# Altium integrated library Linear Technology Power Management Switching Regulator LT1074-LT8705.IntLib: 2252 symbols (part 147 of 148)
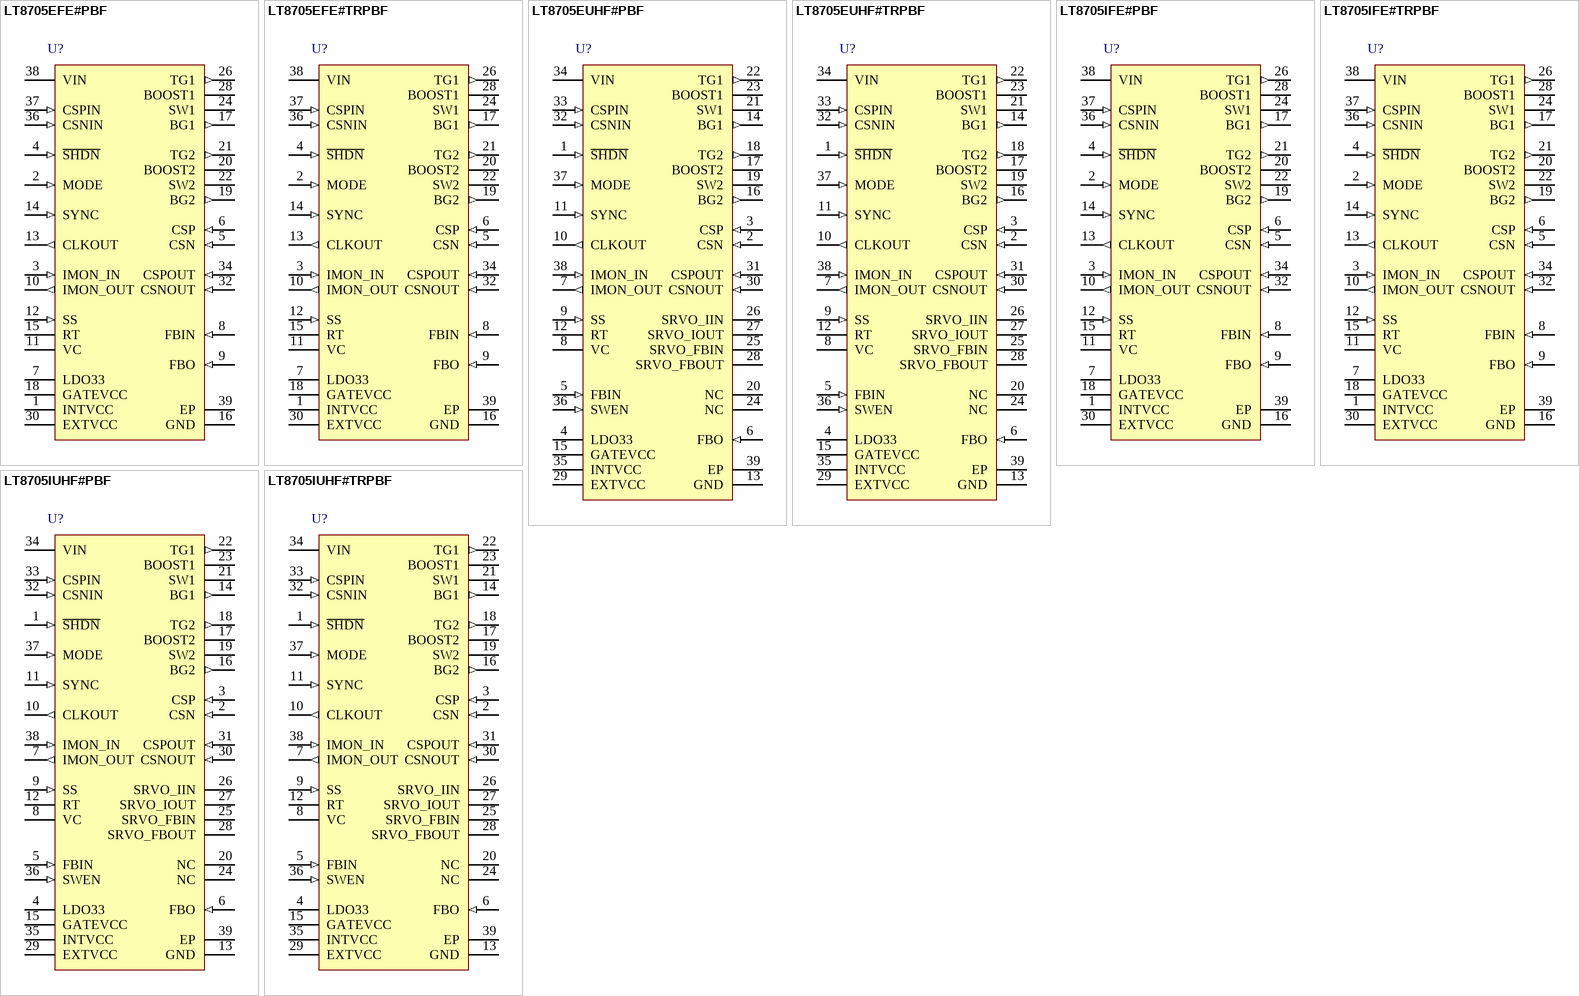
[diagram p217: symbols LT8705EFE#PBF to LT8705IUHF#TRPBF]

## LT8705EFE#PBF
designator U?
Synchronous 4-Switch Buck- Boost DC/DC Controller, 38-pin SOP (FE-38-31-EPV-AB), -40 to 125 degC, Pb-Free; Manufacturer: Linear Technology; PartNumber: LT8705EFE#PBF; Frequency Adjust Range: 100kHz - 400kHz; Number of Outputs: 1; PackageVersion: Rev. B, 09/2010; PackageReference: FE-38; PackageDescription: 31-Pin Plastic TSSOP, Body 9.7 x 4.4 mm, Pitch 0.5 mm; Supplier 1: Digi-Key; Supplier Part Number 1: LT8705EFE#PBF-ND; Supplier 2: Newark; Supplier Part Number 2: 94W8486; RoHS: TRUE; Mounting Technology: Surface Mount; ComponentLink1Description: Manufacturer URL; ComponentLink1URL: http://www.linear.com/; ComponentLink2Description: Datasheet; ComponentLink2URL: http://cds.linear.com/docs/en/datasheet/8705f.pdf; ComponentLink3Description: Package Specification; ComponentLink3URL: http://cds.linear.com/docs/en/packaging/TSSOP_38_05-08-1865.pdf
footprint LT-FE-38-V-FE38(31)-EPV-AB_N (SOP, 31-Leads, Body 9.8x4.5mm, Pitch 0.5mm, Thermal Pad 4.75x2.74mm, IPC Medium Density)
footprint LT-FE-38-V-FE38(31)-EPV-AB_L (SOP, 31-Leads, Body 9.8x4.5mm, Pitch 0.5mm, Thermal Pad 4.75x2.74mm, IPC High Density)
footprint LT-FE-38-V-FE38(31)-EPV-AB_M (SOP, 31-Leads, Body 9.8x4.5mm, Pitch 0.5mm, Thermal Pad 4.75x2.74mm, IPC Low Density)
pins: 1 INTVCC (power) "Internal 6.35V Regulator Output. Must be connected to the GATEVCC pin. INTVCC is powered from EXTVCC when the EXTVCC voltage is higher than 6.4V, otherwise INTVCC is powered from VIN . Bypass this pin to ground with a (See Datasheet)", 2 MODE (in) "Mode Pin. The voltage applied to this pin sets the operating mode of the controller. When the applied voltage is less than 0.4V, the forced continuous current mode is active. When this pin is allowed to float, Burst Mode (See Datasheet)", 3 IMON_IN (in) "Input Current Monitor Pin. The current out of this pin is proportional to the input current. See the Operation and Applications Information sections.", 4 ~{SHDN} (in) "Shutdown Pin. Tie high to enable device. Ground to shut down and reduce quiescent current to a minimum. Do not float this pin.", 5 CSN (in) "The (-) Input to the Inductor Current Sense and Reverse-Current Detect Amplifier.", 6 CSP (in) "The (+) Input to the Inductor Current Sense and Reverse-Current Detect Amplifier. The VC pin voltage and built-in offsets between CSP and CSN pins, in conjunction with the RSENSE resistor value, set the current trip (See Datasheet)", 7 LDO33 (power) "3.3V Regulator Output. Bypass this pin to ground with a minimum 0.1uF ceramic capacitor.", 8 FBIN (in) "Input Feedback Pin. This pin is connected to the input error amplifier input.", 9 FBO (in) "Output Feedback Pin. This pin connects the error amplifier input to an external resistor divider from the output.", 10 IMON_OUT (out) "Output Current Monitor Pin. The current out of this pin is proportional to the output current. See the Operation and Applications Information sections.", 11 VC "Error Amplifier Output Pin. Tie external compensation network to this pin.", 12 SS (in) "Soft-Start Pin. Place at least 100nF of capacitance here. Upon start-up, this pin will be charged by an internal resistor to 2.5V.", 13 CLKOUT (out) "Clock Output Pin. Use this pin to synchronize one or more compatible switching regulator ICs to the LT8705. CLKOUT toggles at the same frequency as the internal oscillator or as the SYNC pin, but is approximately 180degrees (See Datasheet)", 14 SYNC (in) "To synchronize the switching frequency to an outside clock, simply drive this pin with a clock. The high voltage level of the clock needs to exceed 1.3V, and the low level should be less than 0.5V. Drive this pin to less (See Datasheet)", 15 RT "Timing Resistor Pin. Adjusts the switching frequency. Place a resistor from this pin to ground to set the free-running frequency. Do not float this pin.", 16 GND (power) "Ground. Tie directly to local ground plane.", 17 BG1 (out) "Bottom Gate Drive. Drives the gates of the bottom N-channel MOSFETs between ground and GATEVCC.", 18 GATEVCC (power) "Power Supply for Gate Drivers. Must be connected to the INTVCC pin. Do not power from any other supply. Locally bypass to GND.", 19 BG2 (out) "Bottom Gate Drive. Drives the gates of the bottom N-channel MOSFETs between ground and GATEVCC.", 20 BOOST2 "Boosted Floating Driver Supply. The (+) terminal of the bootstrap capacitor connects here. The BOOST1 pin swings from a diode voltage below GATEVCC up to VIN + GATEVCC. The BOOST2 pin swings from a diode voltage below (See Datasheet)", 21 TG2 (out) "Top Gate Drive. Drives the top N-channel MOSFETs with voltage swings equal to GATEVCC superimposed on the switch node voltages.", 22 SW2 "Switch Nodes. The (-) terminals of the bootstrap capacitors connect here.", 24 SW1 "Switch Nodes. The (-) terminals of the bootstrap capacitors connect here.", 26 TG1 (out) "Top Gate Drive. Drives the top N-channel MOSFETs with voltage swings equal to GATEVCC superimposed on the switch node voltages.", 28 BOOST1 "Boosted Floating Driver Supply. The (+) terminal of the bootstrap capacitor connects here. The BOOST1 pin swings from a diode voltage below GATEVCC up to VIN + GATEVCC. The BOOST2 pin swings from a diode voltage below (See Datasheet)", 30 EXTVCC (power) "External VCC Input. When EXTVCC exceeds 6.4V (typical), INTVCC will be powered from this pin. When EXTVCC is lower than 6.22V (typical), INTVCC will be powered from VIN.", 32 CSNOUT (in) "The (-) Input to the Output Current Monitor Amplifier. Connect this pin to VOUT when not in use. See Applications Information section for proper use of this pin.", 34 CSPOUT (in) "The (+) Input to the Output Current Monitor Amplifier. This pin and the CSNOUT pin measure the voltage across the sense resistor, RSENSE2, to provide the output current signals. Connect this pin to VOUT when not in use. See (See Datasheet)", 36 CSNIN (in) "The (-) Input to the Input Current Monitor Amplifier. This pin and the CSPIN pin measure the voltage across the sense resistor, RSENSE1, to provide the input current signals. Connect this pin to VIN when not in use. See (See Datasheet)", 37 CSPIN (in) "The (+) Input to the Input Current Monitor Amplifier. Connect this pin to VIN when not in use. See Applications Information section for proper use of this pin.", 38 VIN (power) "Main Input Supply Pin. It must be locally bypassed to ground.", 39 EP (power) "Ground. Tie directly to local ground plane."

## LT8705EFE#TRPBF
designator U?
Synchronous 4-Switch Buck- Boost DC/DC Controller, 38-pin SOP (FE-38-31-EPV-AB), -40 to 125 degC, Pb-Free, Tape and Reel; Manufacturer: Linear Technology; PartNumber: LT8705EFE#TRPBF; Frequency Adjust Range: 100kHz - 400kHz; Number of Outputs: 1; PackageVersion: Rev. B, 09/2010; PackageReference: FE-38; PackageDescription: 31-Pin Plastic TSSOP, Body 9.7 x 4.4 mm, Pitch 0.5 mm; Supplier 1: Digi-Key; Supplier Part Number 1: LT8705EFE#TRPBF-ND; Supplier 2: Newark; Supplier Part Number 2: 94W8487; Packing: Tape and Reel; RoHS: TRUE; Mounting Technology: Surface Mount; ComponentLink1Description: Manufacturer URL; ComponentLink1URL: http://www.linear.com/; ComponentLink2Description: Datasheet; ComponentLink2URL: http://cds.linear.com/docs/en/datasheet/8705f.pdf; ComponentLink3Description: Package Specification; ComponentLink3URL: http://cds.linear.com/docs/en/packaging/TSSOP_38_05-08-1865.pdf
footprint LT-FE-38-V-FE38(31)-EPV-AB_N (SOP, 31-Leads, Body 9.8x4.5mm, Pitch 0.5mm, Thermal Pad 4.75x2.74mm, IPC Medium Density)
footprint LT-FE-38-V-FE38(31)-EPV-AB_L (SOP, 31-Leads, Body 9.8x4.5mm, Pitch 0.5mm, Thermal Pad 4.75x2.74mm, IPC High Density)
footprint LT-FE-38-V-FE38(31)-EPV-AB_M (SOP, 31-Leads, Body 9.8x4.5mm, Pitch 0.5mm, Thermal Pad 4.75x2.74mm, IPC Low Density)
pins: 1 INTVCC (power) "Internal 6.35V Regulator Output. Must be connected to the GATEVCC pin. INTVCC is powered from EXTVCC when the EXTVCC voltage is higher than 6.4V, otherwise INTVCC is powered from VIN . Bypass this pin to ground with a (See Datasheet)", 2 MODE (in) "Mode Pin. The voltage applied to this pin sets the operating mode of the controller. When the applied voltage is less than 0.4V, the forced continuous current mode is active. When this pin is allowed to float, Burst Mode (See Datasheet)", 3 IMON_IN (in) "Input Current Monitor Pin. The current out of this pin is proportional to the input current. See the Operation and Applications Information sections.", 4 ~{SHDN} (in) "Shutdown Pin. Tie high to enable device. Ground to shut down and reduce quiescent current to a minimum. Do not float this pin.", 5 CSN (in) "The (-) Input to the Inductor Current Sense and Reverse-Current Detect Amplifier.", 6 CSP (in) "The (+) Input to the Inductor Current Sense and Reverse-Current Detect Amplifier. The VC pin voltage and built-in offsets between CSP and CSN pins, in conjunction with the RSENSE resistor value, set the current trip (See Datasheet)", 7 LDO33 (power) "3.3V Regulator Output. Bypass this pin to ground with a minimum 0.1uF ceramic capacitor.", 8 FBIN (in) "Input Feedback Pin. This pin is connected to the input error amplifier input.", 9 FBO (in) "Output Feedback Pin. This pin connects the error amplifier input to an external resistor divider from the output.", 10 IMON_OUT (out) "Output Current Monitor Pin. The current out of this pin is proportional to the output current. See the Operation and Applications Information sections.", 11 VC "Error Amplifier Output Pin. Tie external compensation network to this pin.", 12 SS (in) "Soft-Start Pin. Place at least 100nF of capacitance here. Upon start-up, this pin will be charged by an internal resistor to 2.5V.", 13 CLKOUT (out) "Clock Output Pin. Use this pin to synchronize one or more compatible switching regulator ICs to the LT8705. CLKOUT toggles at the same frequency as the internal oscillator or as the SYNC pin, but is approximately 180degrees (See Datasheet)", 14 SYNC (in) "To synchronize the switching frequency to an outside clock, simply drive this pin with a clock. The high voltage level of the clock needs to exceed 1.3V, and the low level should be less than 0.5V. Drive this pin to less (See Datasheet)", 15 RT "Timing Resistor Pin. Adjusts the switching frequency. Place a resistor from this pin to ground to set the free-running frequency. Do not float this pin.", 16 GND (power) "Ground. Tie directly to local ground plane.", 17 BG1 (out) "Bottom Gate Drive. Drives the gates of the bottom N-channel MOSFETs between ground and GATEVCC.", 18 GATEVCC (power) "Power Supply for Gate Drivers. Must be connected to the INTVCC pin. Do not power from any other supply. Locally bypass to GND.", 19 BG2 (out) "Bottom Gate Drive. Drives the gates of the bottom N-channel MOSFETs between ground and GATEVCC.", 20 BOOST2 "Boosted Floating Driver Supply. The (+) terminal of the bootstrap capacitor connects here. The BOOST1 pin swings from a diode voltage below GATEVCC up to VIN + GATEVCC. The BOOST2 pin swings from a diode voltage below (See Datasheet)", 21 TG2 (out) "Top Gate Drive. Drives the top N-channel MOSFETs with voltage swings equal to GATEVCC superimposed on the switch node voltages.", 22 SW2 "Switch Nodes. The (-) terminals of the bootstrap capacitors connect here.", 24 SW1 "Switch Nodes. The (-) terminals of the bootstrap capacitors connect here.", 26 TG1 (out) "Top Gate Drive. Drives the top N-channel MOSFETs with voltage swings equal to GATEVCC superimposed on the switch node voltages.", 28 BOOST1 "Boosted Floating Driver Supply. The (+) terminal of the bootstrap capacitor connects here. The BOOST1 pin swings from a diode voltage below GATEVCC up to VIN + GATEVCC. The BOOST2 pin swings from a diode voltage below (See Datasheet)", 30 EXTVCC (power) "External VCC Input. When EXTVCC exceeds 6.4V (typical), INTVCC will be powered from this pin. When EXTVCC is lower than 6.22V (typical), INTVCC will be powered from VIN.", 32 CSNOUT (in) "The (-) Input to the Output Current Monitor Amplifier. Connect this pin to VOUT when not in use. See Applications Information section for proper use of this pin.", 34 CSPOUT (in) "The (+) Input to the Output Current Monitor Amplifier. This pin and the CSNOUT pin measure the voltage across the sense resistor, RSENSE2, to provide the output current signals. Connect this pin to VOUT when not in use. See (See Datasheet)", 36 CSNIN (in) "The (-) Input to the Input Current Monitor Amplifier. This pin and the CSPIN pin measure the voltage across the sense resistor, RSENSE1, to provide the input current signals. Connect this pin to VIN when not in use. See (See Datasheet)", 37 CSPIN (in) "The (+) Input to the Input Current Monitor Amplifier. Connect this pin to VIN when not in use. See Applications Information section for proper use of this pin.", 38 VIN (power) "Main Input Supply Pin. It must be locally bypassed to ground.", 39 EP (power) "Ground. Tie directly to local ground plane."

## LT8705EUHF#PBF
designator U?
Synchronous 4-Switch Buck- Boost DC/DC Controller, 38-pin QFN (UHF-38), -40 to 125 degC, Pb-Free; Manufacturer: Linear Technology; PartNumber: LT8705EUHF#PBF; Frequency Adjust Range: 100kHz - 400kHz; Number of Outputs: 1; PackageVersion: Rev. C, 06/2010; PackageReference: UHF-38; PackageDescription: 38-Pin Plastic QFN, Body 7 x 5 mm, Pitch 0.5 mm; Supplier 1: Digi-Key; Supplier Part Number 1: LT8705EUHF#PBF-ND; Supplier 2: Newark; Supplier Part Number 2: 94W8488; RoHS: TRUE; Mounting Technology: Surface Mount; Code_JEDEC: MO-220; ComponentLink1Description: Manufacturer URL; ComponentLink1URL: http://www.linear.com/; ComponentLink2Description: Datasheet; ComponentLink2URL: http://cds.linear.com/docs/en/datasheet/8705f.pdf; ComponentLink3Description: Package Specification; ComponentLink3URL: http://cds.linear.com/docs/en/packaging/QFN_38_05-08-1701.pdf
footprint LT-UHF-38_N (QFN, 38-Leads, Body 7.1x5.1mm, Pitch 0.5mm, Thermal Pad 3.15x5.15mm, IPC Medium Density)
footprint LT-UHF-38_L (QFN, 38-Leads, Body 7.1x5.1mm, Pitch 0.5mm, Thermal Pad 3.15x5.15mm, IPC High Density)
footprint LT-UHF-38_M (QFN, 38-Leads, Body 7.1x5.1mm, Pitch 0.5mm, Thermal Pad 3.15x5.15mm, IPC Low Density)
pins: 1 ~{SHDN} (in) "Shutdown Pin. Tie high to enable device. Ground to shut down and reduce quiescent current to a minimum. Do not float this pin.", 2 CSN (in) "The (-) Input to the Inductor Current Sense and Reverse-Current Detect Amplifier.", 3 CSP (in) "The (+) Input to the Inductor Current Sense and Reverse-Current Detect Amplifier. The VC pin voltage and built-in offsets between CSP and CSN pins, in conjunction with the RSENSE resistor value, set the current trip (See Datasheet)", 4 LDO33 (power) "3.3V Regulator Output. Bypass this pin to ground with a minimum 0.1uF ceramic capacitor.", 5 FBIN (in) "Input Feedback Pin. This pin is connected to the input error amplifier input.", 6 FBO (in) "Output Feedback Pin. This pin connects the error amplifier input to an external resistor divider from the output.", 7 IMON_OUT (out) "Output Current Monitor Pin. The current out of this pin is proportional to the output current. See the Operation and Applications Information sections.", 8 VC "Error Amplifier Output Pin. Tie external compensation network to this pin.", 9 SS (in) "Soft-Start Pin. Place at least 100nF of capacitance here. Upon start-up, this pin will be charged by an internal resistor to 2.5V.", 10 CLKOUT (out) "Clock Output Pin. Use this pin to synchronize one or more compatible switching regulator ICs to the LT8705. CLKOUT toggles at the same frequency as the internal oscillator or as the SYNC pin, but is approximately 180degrees (See Datasheet)", 11 SYNC (in) "To synchronize the switching frequency to an outside clock, simply drive this pin with a clock. The high voltage level of the clock needs to exceed 1.3V, and the low level should be less than 0.5V. Drive this pin to less (See Datasheet)", 12 RT "Timing Resistor Pin. Adjusts the switching frequency. Place a resistor from this pin to ground to set the free-running frequency. Do not float this pin.", 13 GND (power) "Ground. Tie directly to local ground plane.", 14 BG1 (out) "Bottom Gate Drive. Drives the gates of the bottom N-channel MOSFETs between ground and GATEVCC.", 15 GATEVCC (power) "Power Supply for Gate Drivers. Must be connected to the INTVCC pin. Do not power from any other supply. Locally bypass to GND.", 16 BG2 (out) "Bottom Gate Drive. Drives the gates of the bottom N-channel MOSFETs between ground and GATEVCC.", 17 BOOST2 "Boosted Floating Driver Supply. The (+) terminal of the bootstrap capacitor connects here. The BOOST1 pin swings from a diode voltage below GATEVCC up to VIN + GATEVCC. The BOOST2 pin swings from a diode voltage below (See Datasheet)", 18 TG2 (out) "Top Gate Drive. Drives the top N-channel MOSFETs with voltage swings equal to GATEVCC superimposed on the switch node voltages.", 19 SW2 "Switch Nodes. The (-) terminals of the bootstrap capacitors connect here.", 20 NC, 21 SW1 "Switch Nodes. The (-) terminals of the bootstrap capacitors connect here.", 22 TG1 (out) "Top Gate Drive. Drives the top N-channel MOSFETs with voltage swings equal to GATEVCC superimposed on the switch node voltages.", 23 BOOST1 "Boosted Floating Driver Supply. The (+) terminal of the bootstrap capacitor connects here. The BOOST1 pin swings from a diode voltage below GATEVCC up to VIN + GATEVCC. The BOOST2 pin swings from a diode voltage below (See Datasheet)", 24 NC, 25 SRVO_FBIN (oc) "Open-Drain Logic Output. This pin is pulled to ground when the input voltage feedback loop is active.", 26 SRVO_IIN (oc) "Open-Drain Logic Output. The pin is pulled to ground when the input current loop is active.", 27 SRVO_IOUT (oc) "Open-Drain Logic Output. The pin is pulled to ground when the output current feedback loop is active.", 28 SRVO_FBOUT (oc) "Open-Drain Logic Output. This pin is pulled to ground when the output voltage feedback loop is active.", 29 EXTVCC (power) "External VCC Input. When EXTVCC exceeds 6.4V (typical), INTVCC will be powered from this pin. When EXTVCC is lower than 6.22V (typical), INTVCC will be powered from VIN.", 30 CSNOUT (in) "The (-) Input to the Output Current Monitor Amplifier. Connect this pin to VOUT when not in use. See Applications Information section for proper use of this pin.", 31 CSPOUT (in) "The (+) Input to the Output Current Monitor Amplifier. This pin and the CSNOUT pin measure the voltage across the sense resistor, RSENSE2, to provide the output current signals. Connect this pin to VOUT when not in use. See (See Datasheet)", 32 CSNIN (in) "The (-) Input to the Input Current Monitor Amplifier. This pin and the CSPIN pin measure the voltage across the sense resistor, RSENSE1, to provide the input current signals. Connect this pin to VIN when not in use. See (See Datasheet)", 33 CSPIN (in) "The (+) Input to the Input Current Monitor Amplifier. Connect this pin to VIN when not in use. See Applications Information section for proper use of this pin.", 34 VIN (power) "Main Input Supply Pin. It must be locally bypassed to ground.", 35 INTVCC (power) "Internal 6.35V Regulator Output. Must be connected to the GATEVCC pin. INTVCC is powered from EXTVCC when the EXTVCC voltage is higher than 6.4V, otherwise INTVCC is powered from VIN . Bypass this pin to ground with a (See Datasheet)", 36 SWEN (in) "Switch Enable Pin. Tie high to enable switching. Ground to disable switching. Don’t float this pin. This pin is internally tied to INTVCC in the TSSOP package.", 37 MODE (in) "Mode Pin. The voltage applied to this pin sets the operating mode of the controller. When the applied voltage is less than 0.4V, the forced continuous current mode is active. When this pin is allowed to float, Burst Mode (See Datasheet)", 38 IMON_IN (in) "Input Current Monitor Pin. The current out of this pin is proportional to the input current. See the Operation and Applications Information sections.", 39 EP (power) "Ground. Tie directly to local ground plane."

## LT8705EUHF#TRPBF
designator U?
Synchronous 4-Switch Buck- Boost DC/DC Controller, 38-pin QFN (UHF-38), -40 to 125 degC, Pb-Free, Tape and Reel; Manufacturer: Linear Technology; PartNumber: LT8705EUHF#TRPBF; Frequency Adjust Range: 100kHz - 400kHz; Number of Outputs: 1; PackageVersion: Rev. C, 06/2010; PackageReference: UHF-38; PackageDescription: 38-Pin Plastic QFN, Body 7 x 5 mm, Pitch 0.5 mm; Supplier 1: Digi-Key; Supplier Part Number 1: LT8705EUHF#TRPBF-ND; Supplier 2: Newark; Supplier Part Number 2: 94W8489; Packing: Tape and Reel; RoHS: TRUE; Mounting Technology: Surface Mount; Code_JEDEC: MO-220; ComponentLink1Description: Manufacturer URL; ComponentLink1URL: http://www.linear.com/; ComponentLink2Description: Datasheet; ComponentLink2URL: http://cds.linear.com/docs/en/datasheet/8705f.pdf; ComponentLink3Description: Package Specification; ComponentLink3URL: http://cds.linear.com/docs/en/packaging/QFN_38_05-08-1701.pdf
footprint LT-UHF-38_N (QFN, 38-Leads, Body 7.1x5.1mm, Pitch 0.5mm, Thermal Pad 3.15x5.15mm, IPC Medium Density)
footprint LT-UHF-38_L (QFN, 38-Leads, Body 7.1x5.1mm, Pitch 0.5mm, Thermal Pad 3.15x5.15mm, IPC High Density)
footprint LT-UHF-38_M (QFN, 38-Leads, Body 7.1x5.1mm, Pitch 0.5mm, Thermal Pad 3.15x5.15mm, IPC Low Density)
pins: 1 ~{SHDN} (in) "Shutdown Pin. Tie high to enable device. Ground to shut down and reduce quiescent current to a minimum. Do not float this pin.", 2 CSN (in) "The (-) Input to the Inductor Current Sense and Reverse-Current Detect Amplifier.", 3 CSP (in) "The (+) Input to the Inductor Current Sense and Reverse-Current Detect Amplifier. The VC pin voltage and built-in offsets between CSP and CSN pins, in conjunction with the RSENSE resistor value, set the current trip (See Datasheet)", 4 LDO33 (power) "3.3V Regulator Output. Bypass this pin to ground with a minimum 0.1uF ceramic capacitor.", 5 FBIN (in) "Input Feedback Pin. This pin is connected to the input error amplifier input.", 6 FBO (in) "Output Feedback Pin. This pin connects the error amplifier input to an external resistor divider from the output.", 7 IMON_OUT (out) "Output Current Monitor Pin. The current out of this pin is proportional to the output current. See the Operation and Applications Information sections.", 8 VC "Error Amplifier Output Pin. Tie external compensation network to this pin.", 9 SS (in) "Soft-Start Pin. Place at least 100nF of capacitance here. Upon start-up, this pin will be charged by an internal resistor to 2.5V.", 10 CLKOUT (out) "Clock Output Pin. Use this pin to synchronize one or more compatible switching regulator ICs to the LT8705. CLKOUT toggles at the same frequency as the internal oscillator or as the SYNC pin, but is approximately 180degrees (See Datasheet)", 11 SYNC (in) "To synchronize the switching frequency to an outside clock, simply drive this pin with a clock. The high voltage level of the clock needs to exceed 1.3V, and the low level should be less than 0.5V. Drive this pin to less (See Datasheet)", 12 RT "Timing Resistor Pin. Adjusts the switching frequency. Place a resistor from this pin to ground to set the free-running frequency. Do not float this pin.", 13 GND (power) "Ground. Tie directly to local ground plane.", 14 BG1 (out) "Bottom Gate Drive. Drives the gates of the bottom N-channel MOSFETs between ground and GATEVCC.", 15 GATEVCC (power) "Power Supply for Gate Drivers. Must be connected to the INTVCC pin. Do not power from any other supply. Locally bypass to GND.", 16 BG2 (out) "Bottom Gate Drive. Drives the gates of the bottom N-channel MOSFETs between ground and GATEVCC.", 17 BOOST2 "Boosted Floating Driver Supply. The (+) terminal of the bootstrap capacitor connects here. The BOOST1 pin swings from a diode voltage below GATEVCC up to VIN + GATEVCC. The BOOST2 pin swings from a diode voltage below (See Datasheet)", 18 TG2 (out) "Top Gate Drive. Drives the top N-channel MOSFETs with voltage swings equal to GATEVCC superimposed on the switch node voltages.", 19 SW2 "Switch Nodes. The (-) terminals of the bootstrap capacitors connect here.", 20 NC, 21 SW1 "Switch Nodes. The (-) terminals of the bootstrap capacitors connect here.", 22 TG1 (out) "Top Gate Drive. Drives the top N-channel MOSFETs with voltage swings equal to GATEVCC superimposed on the switch node voltages.", 23 BOOST1 "Boosted Floating Driver Supply. The (+) terminal of the bootstrap capacitor connects here. The BOOST1 pin swings from a diode voltage below GATEVCC up to VIN + GATEVCC. The BOOST2 pin swings from a diode voltage below (See Datasheet)", 24 NC, 25 SRVO_FBIN (oc) "Open-Drain Logic Output. This pin is pulled to ground when the input voltage feedback loop is active.", 26 SRVO_IIN (oc) "Open-Drain Logic Output. The pin is pulled to ground when the input current loop is active.", 27 SRVO_IOUT (oc) "Open-Drain Logic Output. The pin is pulled to ground when the output current feedback loop is active.", 28 SRVO_FBOUT (oc) "Open-Drain Logic Output. This pin is pulled to ground when the output voltage feedback loop is active.", 29 EXTVCC (power) "External VCC Input. When EXTVCC exceeds 6.4V (typical), INTVCC will be powered from this pin. When EXTVCC is lower than 6.22V (typical), INTVCC will be powered from VIN.", 30 CSNOUT (in) "The (-) Input to the Output Current Monitor Amplifier. Connect this pin to VOUT when not in use. See Applications Information section for proper use of this pin.", 31 CSPOUT (in) "The (+) Input to the Output Current Monitor Amplifier. This pin and the CSNOUT pin measure the voltage across the sense resistor, RSENSE2, to provide the output current signals. Connect this pin to VOUT when not in use. See (See Datasheet)", 32 CSNIN (in) "The (-) Input to the Input Current Monitor Amplifier. This pin and the CSPIN pin measure the voltage across the sense resistor, RSENSE1, to provide the input current signals. Connect this pin to VIN when not in use. See (See Datasheet)", 33 CSPIN (in) "The (+) Input to the Input Current Monitor Amplifier. Connect this pin to VIN when not in use. See Applications Information section for proper use of this pin.", 34 VIN (power) "Main Input Supply Pin. It must be locally bypassed to ground.", 35 INTVCC (power) "Internal 6.35V Regulator Output. Must be connected to the GATEVCC pin. INTVCC is powered from EXTVCC when the EXTVCC voltage is higher than 6.4V, otherwise INTVCC is powered from VIN . Bypass this pin to ground with a (See Datasheet)", 36 SWEN (in) "Switch Enable Pin. Tie high to enable switching. Ground to disable switching. Don’t float this pin. This pin is internally tied to INTVCC in the TSSOP package.", 37 MODE (in) "Mode Pin. The voltage applied to this pin sets the operating mode of the controller. When the applied voltage is less than 0.4V, the forced continuous current mode is active. When this pin is allowed to float, Burst Mode (See Datasheet)", 38 IMON_IN (in) "Input Current Monitor Pin. The current out of this pin is proportional to the input current. See the Operation and Applications Information sections.", 39 EP (power) "Ground. Tie directly to local ground plane."

## LT8705IFE#PBF
designator U?
Synchronous 4-Switch Buck- Boost DC/DC Controller, 38-pin SOP (FE-38-31-EPV-AB), -40 to 125 degC, Pb-Free; Manufacturer: Linear Technology; PartNumber: LT8705IFE#PBF; Frequency Adjust Range: 100kHz - 400kHz; Number of Outputs: 1; PackageVersion: Rev. B, 09/2010; PackageReference: FE-38; PackageDescription: 31-Pin Plastic TSSOP, Body 9.7 x 4.4 mm, Pitch 0.5 mm; Supplier 1: Digi-Key; Supplier Part Number 1: LT8705IFE#PBF-ND; Supplier 2: Newark; Supplier Part Number 2: 94W8490; RoHS: TRUE; Mounting Technology: Surface Mount; ComponentLink1Description: Manufacturer URL; ComponentLink1URL: http://www.linear.com/; ComponentLink2Description: Datasheet; ComponentLink2URL: http://cds.linear.com/docs/en/datasheet/8705f.pdf; ComponentLink3Description: Package Specification; ComponentLink3URL: http://cds.linear.com/docs/en/packaging/TSSOP_38_05-08-1865.pdf
footprint LT-FE-38-V-FE38(31)-EPV-AB_N (SOP, 31-Leads, Body 9.8x4.5mm, Pitch 0.5mm, Thermal Pad 4.75x2.74mm, IPC Medium Density)
footprint LT-FE-38-V-FE38(31)-EPV-AB_L (SOP, 31-Leads, Body 9.8x4.5mm, Pitch 0.5mm, Thermal Pad 4.75x2.74mm, IPC High Density)
footprint LT-FE-38-V-FE38(31)-EPV-AB_M (SOP, 31-Leads, Body 9.8x4.5mm, Pitch 0.5mm, Thermal Pad 4.75x2.74mm, IPC Low Density)
pins: 1 INTVCC (power) "Internal 6.35V Regulator Output. Must be connected to the GATEVCC pin. INTVCC is powered from EXTVCC when the EXTVCC voltage is higher than 6.4V, otherwise INTVCC is powered from VIN . Bypass this pin to ground with a (See Datasheet)", 2 MODE (in) "Mode Pin. The voltage applied to this pin sets the operating mode of the controller. When the applied voltage is less than 0.4V, the forced continuous current mode is active. When this pin is allowed to float, Burst Mode (See Datasheet)", 3 IMON_IN (in) "Input Current Monitor Pin. The current out of this pin is proportional to the input current. See the Operation and Applications Information sections.", 4 ~{SHDN} (in) "Shutdown Pin. Tie high to enable device. Ground to shut down and reduce quiescent current to a minimum. Do not float this pin.", 5 CSN (in) "The (-) Input to the Inductor Current Sense and Reverse-Current Detect Amplifier.", 6 CSP (in) "The (+) Input to the Inductor Current Sense and Reverse-Current Detect Amplifier. The VC pin voltage and built-in offsets between CSP and CSN pins, in conjunction with the RSENSE resistor value, set the current trip (See Datasheet)", 7 LDO33 (power) "3.3V Regulator Output. Bypass this pin to ground with a minimum 0.1uF ceramic capacitor.", 8 FBIN (in) "Input Feedback Pin. This pin is connected to the input error amplifier input.", 9 FBO (in) "Output Feedback Pin. This pin connects the error amplifier input to an external resistor divider from the output.", 10 IMON_OUT (out) "Output Current Monitor Pin. The current out of this pin is proportional to the output current. See the Operation and Applications Information sections.", 11 VC "Error Amplifier Output Pin. Tie external compensation network to this pin.", 12 SS (in) "Soft-Start Pin. Place at least 100nF of capacitance here. Upon start-up, this pin will be charged by an internal resistor to 2.5V.", 13 CLKOUT (out) "Clock Output Pin. Use this pin to synchronize one or more compatible switching regulator ICs to the LT8705. CLKOUT toggles at the same frequency as the internal oscillator or as the SYNC pin, but is approximately 180degrees (See Datasheet)", 14 SYNC (in) "To synchronize the switching frequency to an outside clock, simply drive this pin with a clock. The high voltage level of the clock needs to exceed 1.3V, and the low level should be less than 0.5V. Drive this pin to less (See Datasheet)", 15 RT "Timing Resistor Pin. Adjusts the switching frequency. Place a resistor from this pin to ground to set the free-running frequency. Do not float this pin.", 16 GND (power) "Ground. Tie directly to local ground plane.", 17 BG1 (out) "Bottom Gate Drive. Drives the gates of the bottom N-channel MOSFETs between ground and GATEVCC.", 18 GATEVCC (power) "Power Supply for Gate Drivers. Must be connected to the INTVCC pin. Do not power from any other supply. Locally bypass to GND.", 19 BG2 (out) "Bottom Gate Drive. Drives the gates of the bottom N-channel MOSFETs between ground and GATEVCC.", 20 BOOST2 "Boosted Floating Driver Supply. The (+) terminal of the bootstrap capacitor connects here. The BOOST1 pin swings from a diode voltage below GATEVCC up to VIN + GATEVCC. The BOOST2 pin swings from a diode voltage below (See Datasheet)", 21 TG2 (out) "Top Gate Drive. Drives the top N-channel MOSFETs with voltage swings equal to GATEVCC superimposed on the switch node voltages.", 22 SW2 "Switch Nodes. The (-) terminals of the bootstrap capacitors connect here.", 24 SW1 "Switch Nodes. The (-) terminals of the bootstrap capacitors connect here.", 26 TG1 (out) "Top Gate Drive. Drives the top N-channel MOSFETs with voltage swings equal to GATEVCC superimposed on the switch node voltages.", 28 BOOST1 "Boosted Floating Driver Supply. The (+) terminal of the bootstrap capacitor connects here. The BOOST1 pin swings from a diode voltage below GATEVCC up to VIN + GATEVCC. The BOOST2 pin swings from a diode voltage below (See Datasheet)", 30 EXTVCC (power) "External VCC Input. When EXTVCC exceeds 6.4V (typical), INTVCC will be powered from this pin. When EXTVCC is lower than 6.22V (typical), INTVCC will be powered from VIN.", 32 CSNOUT (in) "The (-) Input to the Output Current Monitor Amplifier. Connect this pin to VOUT when not in use. See Applications Information section for proper use of this pin.", 34 CSPOUT (in) "The (+) Input to the Output Current Monitor Amplifier. This pin and the CSNOUT pin measure the voltage across the sense resistor, RSENSE2, to provide the output current signals. Connect this pin to VOUT when not in use. See (See Datasheet)", 36 CSNIN (in) "The (-) Input to the Input Current Monitor Amplifier. This pin and the CSPIN pin measure the voltage across the sense resistor, RSENSE1, to provide the input current signals. Connect this pin to VIN when not in use. See (See Datasheet)", 37 CSPIN (in) "The (+) Input to the Input Current Monitor Amplifier. Connect this pin to VIN when not in use. See Applications Information section for proper use of this pin.", 38 VIN (power) "Main Input Supply Pin. It must be locally bypassed to ground.", 39 EP (power) "Ground. Tie directly to local ground plane."

## LT8705IFE#TRPBF
designator U?
Synchronous 4-Switch Buck- Boost DC/DC Controller, 38-pin SOP (FE-38-31-EPV-AB), -40 to 125 degC, Pb-Free, Tape and Reel; Manufacturer: Linear Technology; PartNumber: LT8705IFE#TRPBF; Frequency Adjust Range: 100kHz - 400kHz; Number of Outputs: 1; PackageVersion: Rev. B, 09/2010; PackageReference: FE-38; PackageDescription: 31-Pin Plastic TSSOP, Body 9.7 x 4.4 mm, Pitch 0.5 mm; Supplier 1: Digi-Key; Supplier Part Number 1: LT8705IFE#TRPBF-ND; Supplier 2: Newark; Supplier Part Number 2: 94W8491; Packing: Tape and Reel; RoHS: TRUE; Mounting Technology: Surface Mount; ComponentLink1Description: Manufacturer URL; ComponentLink1URL: http://www.linear.com/; ComponentLink2Description: Datasheet; ComponentLink2URL: http://cds.linear.com/docs/en/datasheet/8705f.pdf; ComponentLink3Description: Package Specification; ComponentLink3URL: http://cds.linear.com/docs/en/packaging/TSSOP_38_05-08-1865.pdf
footprint LT-FE-38-V-FE38(31)-EPV-AB_N (SOP, 31-Leads, Body 9.8x4.5mm, Pitch 0.5mm, Thermal Pad 4.75x2.74mm, IPC Medium Density)
footprint LT-FE-38-V-FE38(31)-EPV-AB_L (SOP, 31-Leads, Body 9.8x4.5mm, Pitch 0.5mm, Thermal Pad 4.75x2.74mm, IPC High Density)
footprint LT-FE-38-V-FE38(31)-EPV-AB_M (SOP, 31-Leads, Body 9.8x4.5mm, Pitch 0.5mm, Thermal Pad 4.75x2.74mm, IPC Low Density)
pins: 1 INTVCC (power) "Internal 6.35V Regulator Output. Must be connected to the GATEVCC pin. INTVCC is powered from EXTVCC when the EXTVCC voltage is higher than 6.4V, otherwise INTVCC is powered from VIN . Bypass this pin to ground with a (See Datasheet)", 2 MODE (in) "Mode Pin. The voltage applied to this pin sets the operating mode of the controller. When the applied voltage is less than 0.4V, the forced continuous current mode is active. When this pin is allowed to float, Burst Mode (See Datasheet)", 3 IMON_IN (in) "Input Current Monitor Pin. The current out of this pin is proportional to the input current. See the Operation and Applications Information sections.", 4 ~{SHDN} (in) "Shutdown Pin. Tie high to enable device. Ground to shut down and reduce quiescent current to a minimum. Do not float this pin.", 5 CSN (in) "The (-) Input to the Inductor Current Sense and Reverse-Current Detect Amplifier.", 6 CSP (in) "The (+) Input to the Inductor Current Sense and Reverse-Current Detect Amplifier. The VC pin voltage and built-in offsets between CSP and CSN pins, in conjunction with the RSENSE resistor value, set the current trip (See Datasheet)", 7 LDO33 (power) "3.3V Regulator Output. Bypass this pin to ground with a minimum 0.1uF ceramic capacitor.", 8 FBIN (in) "Input Feedback Pin. This pin is connected to the input error amplifier input.", 9 FBO (in) "Output Feedback Pin. This pin connects the error amplifier input to an external resistor divider from the output.", 10 IMON_OUT (out) "Output Current Monitor Pin. The current out of this pin is proportional to the output current. See the Operation and Applications Information sections.", 11 VC "Error Amplifier Output Pin. Tie external compensation network to this pin.", 12 SS (in) "Soft-Start Pin. Place at least 100nF of capacitance here. Upon start-up, this pin will be charged by an internal resistor to 2.5V.", 13 CLKOUT (out) "Clock Output Pin. Use this pin to synchronize one or more compatible switching regulator ICs to the LT8705. CLKOUT toggles at the same frequency as the internal oscillator or as the SYNC pin, but is approximately 180degrees (See Datasheet)", 14 SYNC (in) "To synchronize the switching frequency to an outside clock, simply drive this pin with a clock. The high voltage level of the clock needs to exceed 1.3V, and the low level should be less than 0.5V. Drive this pin to less (See Datasheet)", 15 RT "Timing Resistor Pin. Adjusts the switching frequency. Place a resistor from this pin to ground to set the free-running frequency. Do not float this pin.", 16 GND (power) "Ground. Tie directly to local ground plane.", 17 BG1 (out) "Bottom Gate Drive. Drives the gates of the bottom N-channel MOSFETs between ground and GATEVCC.", 18 GATEVCC (power) "Power Supply for Gate Drivers. Must be connected to the INTVCC pin. Do not power from any other supply. Locally bypass to GND.", 19 BG2 (out) "Bottom Gate Drive. Drives the gates of the bottom N-channel MOSFETs between ground and GATEVCC.", 20 BOOST2 "Boosted Floating Driver Supply. The (+) terminal of the bootstrap capacitor connects here. The BOOST1 pin swings from a diode voltage below GATEVCC up to VIN + GATEVCC. The BOOST2 pin swings from a diode voltage below (See Datasheet)", 21 TG2 (out) "Top Gate Drive. Drives the top N-channel MOSFETs with voltage swings equal to GATEVCC superimposed on the switch node voltages.", 22 SW2 "Switch Nodes. The (-) terminals of the bootstrap capacitors connect here.", 24 SW1 "Switch Nodes. The (-) terminals of the bootstrap capacitors connect here.", 26 TG1 (out) "Top Gate Drive. Drives the top N-channel MOSFETs with voltage swings equal to GATEVCC superimposed on the switch node voltages.", 28 BOOST1 "Boosted Floating Driver Supply. The (+) terminal of the bootstrap capacitor connects here. The BOOST1 pin swings from a diode voltage below GATEVCC up to VIN + GATEVCC. The BOOST2 pin swings from a diode voltage below (See Datasheet)", 30 EXTVCC (power) "External VCC Input. When EXTVCC exceeds 6.4V (typical), INTVCC will be powered from this pin. When EXTVCC is lower than 6.22V (typical), INTVCC will be powered from VIN.", 32 CSNOUT (in) "The (-) Input to the Output Current Monitor Amplifier. Connect this pin to VOUT when not in use. See Applications Information section for proper use of this pin.", 34 CSPOUT (in) "The (+) Input to the Output Current Monitor Amplifier. This pin and the CSNOUT pin measure the voltage across the sense resistor, RSENSE2, to provide the output current signals. Connect this pin to VOUT when not in use. See (See Datasheet)", 36 CSNIN (in) "The (-) Input to the Input Current Monitor Amplifier. This pin and the CSPIN pin measure the voltage across the sense resistor, RSENSE1, to provide the input current signals. Connect this pin to VIN when not in use. See (See Datasheet)", 37 CSPIN (in) "The (+) Input to the Input Current Monitor Amplifier. Connect this pin to VIN when not in use. See Applications Information section for proper use of this pin.", 38 VIN (power) "Main Input Supply Pin. It must be locally bypassed to ground.", 39 EP (power) "Ground. Tie directly to local ground plane."

## LT8705IUHF#PBF
designator U?
Synchronous 4-Switch Buck- Boost DC/DC Controller, 38-pin QFN (UHF-38), -40 to 125 degC, Pb-Free; Manufacturer: Linear Technology; PartNumber: LT8705IUHF#PBF; Frequency Adjust Range: 100kHz - 400kHz; Number of Outputs: 1; PackageVersion: Rev. C, 06/2010; PackageReference: UHF-38; PackageDescription: 38-Pin Plastic QFN, Body 7 x 5 mm, Pitch 0.5 mm; Supplier 1: Digi-Key; Supplier Part Number 1: LT8705IUHF#PBF-ND; Supplier 2: Newark; Supplier Part Number 2: 94W8492; RoHS: TRUE; Mounting Technology: Surface Mount; Code_JEDEC: MO-220; ComponentLink1Description: Manufacturer URL; ComponentLink1URL: http://www.linear.com/; ComponentLink2Description: Datasheet; ComponentLink2URL: http://cds.linear.com/docs/en/datasheet/8705f.pdf; ComponentLink3Description: Package Specification; ComponentLink3URL: http://cds.linear.com/docs/en/packaging/QFN_38_05-08-1701.pdf
footprint LT-UHF-38_N (QFN, 38-Leads, Body 7.1x5.1mm, Pitch 0.5mm, Thermal Pad 3.15x5.15mm, IPC Medium Density)
footprint LT-UHF-38_L (QFN, 38-Leads, Body 7.1x5.1mm, Pitch 0.5mm, Thermal Pad 3.15x5.15mm, IPC High Density)
footprint LT-UHF-38_M (QFN, 38-Leads, Body 7.1x5.1mm, Pitch 0.5mm, Thermal Pad 3.15x5.15mm, IPC Low Density)
pins: 1 ~{SHDN} (in) "Shutdown Pin. Tie high to enable device. Ground to shut down and reduce quiescent current to a minimum. Do not float this pin.", 2 CSN (in) "The (-) Input to the Inductor Current Sense and Reverse-Current Detect Amplifier.", 3 CSP (in) "The (+) Input to the Inductor Current Sense and Reverse-Current Detect Amplifier. The VC pin voltage and built-in offsets between CSP and CSN pins, in conjunction with the RSENSE resistor value, set the current trip (See Datasheet)", 4 LDO33 (power) "3.3V Regulator Output. Bypass this pin to ground with a minimum 0.1uF ceramic capacitor.", 5 FBIN (in) "Input Feedback Pin. This pin is connected to the input error amplifier input.", 6 FBO (in) "Output Feedback Pin. This pin connects the error amplifier input to an external resistor divider from the output.", 7 IMON_OUT (out) "Output Current Monitor Pin. The current out of this pin is proportional to the output current. See the Operation and Applications Information sections.", 8 VC "Error Amplifier Output Pin. Tie external compensation network to this pin.", 9 SS (in) "Soft-Start Pin. Place at least 100nF of capacitance here. Upon start-up, this pin will be charged by an internal resistor to 2.5V.", 10 CLKOUT (out) "Clock Output Pin. Use this pin to synchronize one or more compatible switching regulator ICs to the LT8705. CLKOUT toggles at the same frequency as the internal oscillator or as the SYNC pin, but is approximately 180degrees (See Datasheet)", 11 SYNC (in) "To synchronize the switching frequency to an outside clock, simply drive this pin with a clock. The high voltage level of the clock needs to exceed 1.3V, and the low level should be less than 0.5V. Drive this pin to less (See Datasheet)", 12 RT "Timing Resistor Pin. Adjusts the switching frequency. Place a resistor from this pin to ground to set the free-running frequency. Do not float this pin.", 13 GND (power) "Ground. Tie directly to local ground plane.", 14 BG1 (out) "Bottom Gate Drive. Drives the gates of the bottom N-channel MOSFETs between ground and GATEVCC.", 15 GATEVCC (power) "Power Supply for Gate Drivers. Must be connected to the INTVCC pin. Do not power from any other supply. Locally bypass to GND.", 16 BG2 (out) "Bottom Gate Drive. Drives the gates of the bottom N-channel MOSFETs between ground and GATEVCC.", 17 BOOST2 "Boosted Floating Driver Supply. The (+) terminal of the bootstrap capacitor connects here. The BOOST1 pin swings from a diode voltage below GATEVCC up to VIN + GATEVCC. The BOOST2 pin swings from a diode voltage below (See Datasheet)", 18 TG2 (out) "Top Gate Drive. Drives the top N-channel MOSFETs with voltage swings equal to GATEVCC superimposed on the switch node voltages.", 19 SW2 "Switch Nodes. The (-) terminals of the bootstrap capacitors connect here.", 20 NC, 21 SW1 "Switch Nodes. The (-) terminals of the bootstrap capacitors connect here.", 22 TG1 (out) "Top Gate Drive. Drives the top N-channel MOSFETs with voltage swings equal to GATEVCC superimposed on the switch node voltages.", 23 BOOST1 "Boosted Floating Driver Supply. The (+) terminal of the bootstrap capacitor connects here. The BOOST1 pin swings from a diode voltage below GATEVCC up to VIN + GATEVCC. The BOOST2 pin swings from a diode voltage below (See Datasheet)", 24 NC, 25 SRVO_FBIN (oc) "Open-Drain Logic Output. This pin is pulled to ground when the input voltage feedback loop is active.", 26 SRVO_IIN (oc) "Open-Drain Logic Output. The pin is pulled to ground when the input current loop is active.", 27 SRVO_IOUT (oc) "Open-Drain Logic Output. The pin is pulled to ground when the output current feedback loop is active.", 28 SRVO_FBOUT (oc) "Open-Drain Logic Output. This pin is pulled to ground when the output voltage feedback loop is active.", 29 EXTVCC (power) "External VCC Input. When EXTVCC exceeds 6.4V (typical), INTVCC will be powered from this pin. When EXTVCC is lower than 6.22V (typical), INTVCC will be powered from VIN.", 30 CSNOUT (in) "The (-) Input to the Output Current Monitor Amplifier. Connect this pin to VOUT when not in use. See Applications Information section for proper use of this pin.", 31 CSPOUT (in) "The (+) Input to the Output Current Monitor Amplifier. This pin and the CSNOUT pin measure the voltage across the sense resistor, RSENSE2, to provide the output current signals. Connect this pin to VOUT when not in use. See (See Datasheet)", 32 CSNIN (in) "The (-) Input to the Input Current Monitor Amplifier. This pin and the CSPIN pin measure the voltage across the sense resistor, RSENSE1, to provide the input current signals. Connect this pin to VIN when not in use. See (See Datasheet)", 33 CSPIN (in) "The (+) Input to the Input Current Monitor Amplifier. Connect this pin to VIN when not in use. See Applications Information section for proper use of this pin.", 34 VIN (power) "Main Input Supply Pin. It must be locally bypassed to ground.", 35 INTVCC (power) "Internal 6.35V Regulator Output. Must be connected to the GATEVCC pin. INTVCC is powered from EXTVCC when the EXTVCC voltage is higher than 6.4V, otherwise INTVCC is powered from VIN . Bypass this pin to ground with a (See Datasheet)", 36 SWEN (in) "Switch Enable Pin. Tie high to enable switching. Ground to disable switching. Don’t float this pin. This pin is internally tied to INTVCC in the TSSOP package.", 37 MODE (in) "Mode Pin. The voltage applied to this pin sets the operating mode of the controller. When the applied voltage is less than 0.4V, the forced continuous current mode is active. When this pin is allowed to float, Burst Mode (See Datasheet)", 38 IMON_IN (in) "Input Current Monitor Pin. The current out of this pin is proportional to the input current. See the Operation and Applications Information sections.", 39 EP (power) "Ground. Tie directly to local ground plane."